# Altium footprint library CONNFLY.PcbLib: 24 footprints (part 2 of 2)
Each footprint in its own frame and in the unit in brackets; x right, y up, seen from the top. Pads: shape width x height; smd on the part's side, far side on the other; paste and mask are expansions set on the pad; w line width, h text height; cw(c..) or ccw(c..) is an arc to the next point about the centre after c.
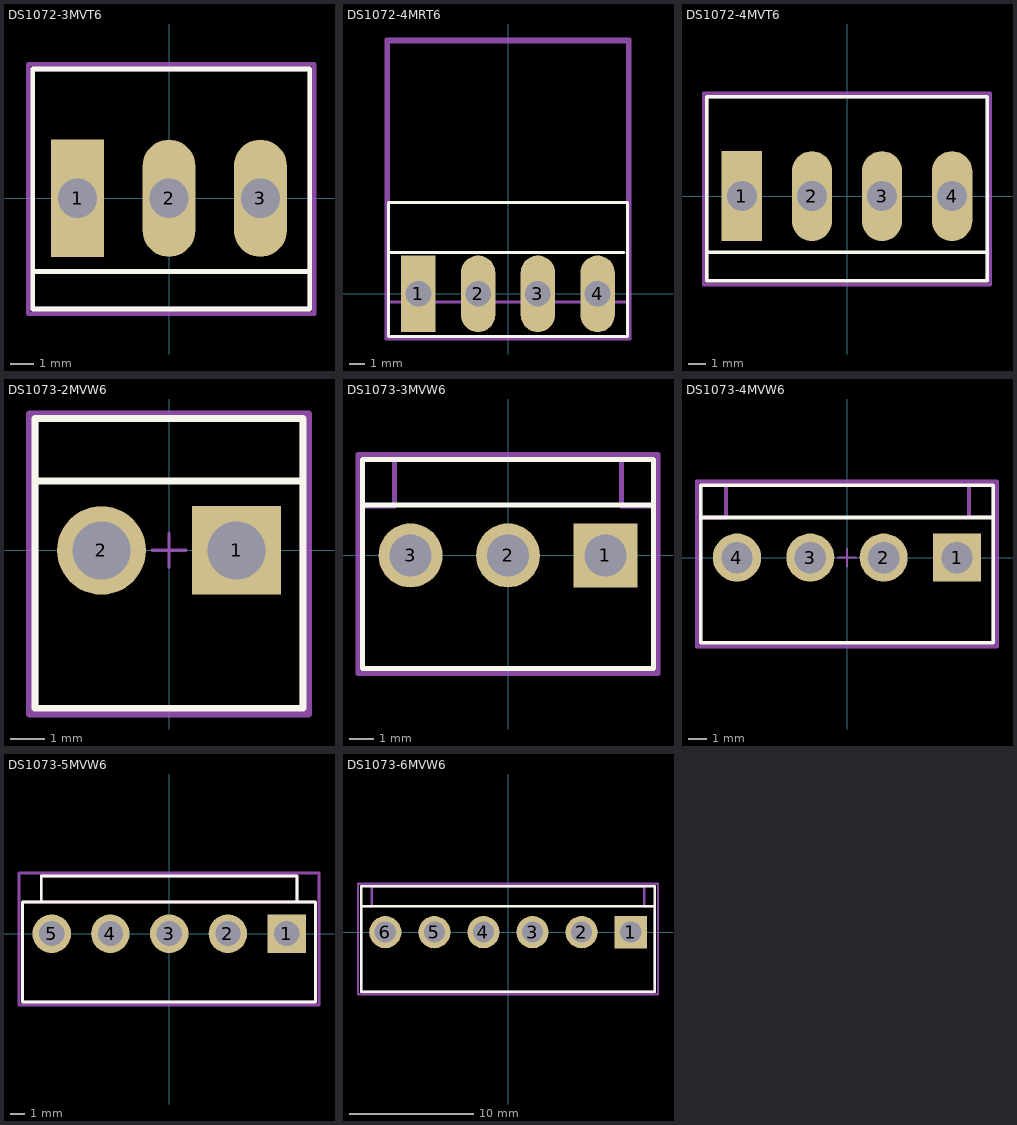
[diagram p1: the footprints below, top view; thin cyan lines are the x and y axes]

## DS1072-3MVT6 [mm] "connfly electronic CO,.LTD."
pads (3):
  rect 2.286x5.08 hole 1.7: 1(-3.96,0)
  oval 2.286x5.08 hole 1.7: 2(0,0) 3(3.96,0)
Top Overlay:
  lines w0.2: -5.842,-3.175 6.1,-3.175 ; -5.9,-4.8 6.1,-4.8 6.1,5.6 -5.9,5.6 -5.9,-4.8
Mechanical 13:
  lines w0.2: -5.9,-4.8 6.1,-4.8 6.1,5.6 -5.9,5.6 -5.9,-4.8
Mechanical 15:
  lines w0.2: -6.1,-5 6.3,-5 6.3,5.8 -6.1,5.8 -6.1,-5
3D body "User Library-PWL-3.step": height 13.85, standoff -3.55, extent -5.805,-4.8 6.075,5.6

## DS1072-4MRT6 [mm] "connfly electronic CO,.LTD."
pads (4):
  rect 2.286x5.08 hole 1.7: 1(-5.94,0)
  oval 2.286x5.08 hole 1.7: 2(-1.98,0) 3(1.98,0) 4(5.94,0)
Top Overlay:
  lines w0.2: -7.9,2.75 7.711,2.75 ; -7.92,-2.85 -7.92,6.05 7.92,6.05 7.92,-2.85 -7.92,-2.85
Mechanical 13:
  lines w0.2: -7.92,-0.559 -7.92,16.709 7.92,16.709 7.92,-0.559 -7.92,-0.559
Mechanical 15:
  lines w0.2: -8.1,-3 8.1,-3 8.1,16.9 -8.1,16.9 -8.1,-3
3D body "User Library-PWL-4R.step": height 10.45, standoff -3.65, extent -7.92,-0.559 7.92,16.709

## DS1072-4MVT6 [mm] "connfly electronic CO,.LTD."
pads (4):
  rect 2.286x5.08 hole 1.7: 1(-5.94,0)
  oval 2.286x5.08 hole 1.7: 2(-1.98,0) 3(1.98,0) 4(5.94,0)
Top Overlay:
  lines w0.2: -7.81,-3.175 7.81,-3.175 ; -7.92,-4.775 7.92,-4.775 7.92,5.625 -7.92,5.625 -7.92,-4.775
Mechanical 13:
  lines w0.2: -7.92,-4.775 -7.92,5.625 7.92,5.625 7.92,-4.775 -7.92,-4.775
Mechanical 15:
  lines w0.2: -8.1,-5 8.1,-5 8.1,5.8 -8.1,5.8 -8.1,-5
3D body "User Library-PWL-4.step": height 13.85, standoff -3.55, extent -7.92,-4.775 7.92,5.625

## DS1073-2MVW6 [mm] "VH Series 3.96 mm Pitch, Compact, Lock Mechanism also Prevents Misinsertion"
pads (2):
  rect 2.6x2.6 hole 1.7 paste-2539.97 mask+0: 1(1.98,0)
  round 2.6 hole 1.7 paste-2539.97 mask+0: 2(-1.98,0)
Top Overlay:
  lines w0.2: -3.93,2.032 3.93,2.032 ; -3.93,-4.63 -3.93,3.87 3.931,3.87 3.931,-4.63 -3.93,-4.63
Mechanical 10:
  lines w0.2: -3.93,-4.63 -3.93,3.87 3.931,3.87 3.931,-4.63 -3.93,-4.63
Mechanical 15:
  lines w0.1: -0.5,0 0.5,0 ; 0,-0.5 0,0.5
  lines w0.2: -4.1,-4.8 -4.1,4 4.1,4 4.1,-4.8 -4.1,-4.8
3D body "User Library-B2P-VH-BK.STEP": height 10.77, standoff -3.83, extent -3.93,-4.631 3.93,3.869

## DS1073-3MVW6 [mm] "Connector Header, VH Series, 3 Position, 3.96mm, 250V, Shrouded - 1 Wall, Through Hole, Solder, Locking Ramp, Natural"
height 10.9
pads (3):
  rect 2.6x2.6 hole 1.7 paste-2539.97 mask+0: 1(3.96,0)
  round 2.6 hole 1.7 paste-2539.97 mask+0: 2(0,0) 3(-3.96,0)
Top Overlay:
  lines w0.2: -5.842,2.052 5.842,2.052 ; -5.91,-4.6 5.91,-4.6 5.91,3.9 -5.91,3.9 -5.91,-4.6
Mechanical 10:
  lines w0.2: -5.91,-4.6 5.91,-4.6 5.91,2 4.61,2 4.61,3.9 -4.61,3.9 -4.61,2 -5.91,2 -5.91,-4.6
Mechanical 15:
  lines w0.2: -0.5,0 0.5,0 ; 0,-0.5 0,0.5 ; -6.1,-4.8 6.1,-4.8 6.1,4.1 -6.1,4.1 -6.1,-4.8
3D body "User Library-B3P-VH-BK.STEP": height 10.77, standoff -3.83, extent -5.91,-4.611 5.91,3.889

## DS1073-4MVW6 [mm] "VH Series 4 Position 3.96 mm Pitch Top Entry Locking Header"
pads (4):
  rect 2.6x2.6 hole 1.7 paste-2539.97 mask+0: 1(5.94,0)
  round 2.6 hole 1.7 paste-2539.97 mask+0: 2(1.98,0) 3(-1.98,0) 4(-5.94,0)
Top Overlay:
  lines w0.2: -7.89,2.158 7.862,2.158 ; -7.89,-4.6 -7.89,3.9 7.89,3.9 7.89,-4.6 -7.89,-4.6
Mechanical 10:
  lines w0.2: -7.9,2.164 -6.536,2.164 -6.536,3.9 ; 6.583,3.9 6.583,2.168 7.9,2.168 ; -7.891,-4.6 -7.891,3.9 7.9,3.9 7.9,-4.6 -7.891,-4.6
Mechanical 15:
  lines w0.1: -0.5,0 0.5,0 ; 0,-0.5 0,0.5
  lines w0.2: -8.1,-4.8 8.1,-4.8 8.1,4.1 -8.1,4.1 -8.1,-4.8
3D body "User Library-B4P-VH-BK.STEP": height 10.77, standoff -3.83, extent -7.89,-4.6 7.89,3.9

## DS1073-5MVW6 [mm] "Conn Wire to Board HDR 5 POS 3.96mm Solder ST Top Entry Thru-Hole Box"
pads (5):
  rect 2.6x2.6 hole 1.7: 1(7.92,0)
  round 2.6 hole 1.7: 2(3.96,0) 3(0,0) 4(-3.96,0) 5(-7.92,0)
Top Overlay:
  lines w0.2: -8.62,2.127 8.62,2.127 ; -8.62,2.127 -9.87,2.127 -9.87,-4.6 9.87,-4.6 9.87,2.127 8.62,2.127 ; -8.62,2.127 -8.62,3.896 8.62,3.896 8.62,2.127
Mechanical 10:
  lines w0.2: -8.62,2.127 -8.62,3.896 8.62,3.896 8.62,2.127 ; -8.62,2.127 -9.87,2.127 -9.87,-4.6 9.87,-4.6 9.87,2.127 8.62,2.127 ; -8.62,2.127 8.62,2.127
Mechanical 15:
  lines w0.2: -10.12,-4.8 10.1,-4.8 10.1,4.077 -10.12,4.077 -10.12,-4.8
3D body "User Library-B5P-VH-BK.STEP": height 10.77, standoff -3.83, extent -9.87,-4.605 9.87,3.894

## DS1073-6MVW6 [mm] "VH Series 3.96 mm Pitch 6 Position Top Entry Locking Wire to Board Header"
pads (6):
  rect 2.6x2.6 hole 1.7: 1(9.9,0)
  round 2.6 hole 1.7: 2(5.94,0) 3(1.98,0) 4(-1.98,0) 5(-5.94,0) 6(-9.9,0)
Top Overlay:
  lines w0.2: -11.85,2.105 11.85,2.105 ; -11.85,-4.8 -11.85,3.7 11.85,3.7 11.85,-4.8 -11.85,-4.8
Mechanical 10:
  lines w0.2: 11.85,-4.8 -11.85,-4.8 -11.85,2.105 ; -11.85,2.105 -11.85,2.105 ; -11.85,2.105 -11,2.105 -11,3.7 11,3.7 11,2.105 11.85,2.105 ; 11.85,-4.8 11.85,2.105 ; 11.85,-4.8 11.85,-4.8 ; 11.85,2.105 11.85,2.105
Mechanical 15:
  lines w0.2: -12.1,-5 12.1,-5 12.1,3.9 -12.1,3.9 -12.1,-5
3D body "JST_B6P-VH(LF)(SN)_HDR_TH_3.96mm_pitch_V.STEP": height 10.77, standoff -3.83, extent -11.85,-4.8 11.85,3.7